# Altium schematic symbol library LaserDiode_Driver.SchLib: 93 symbols (part 2 of 3)
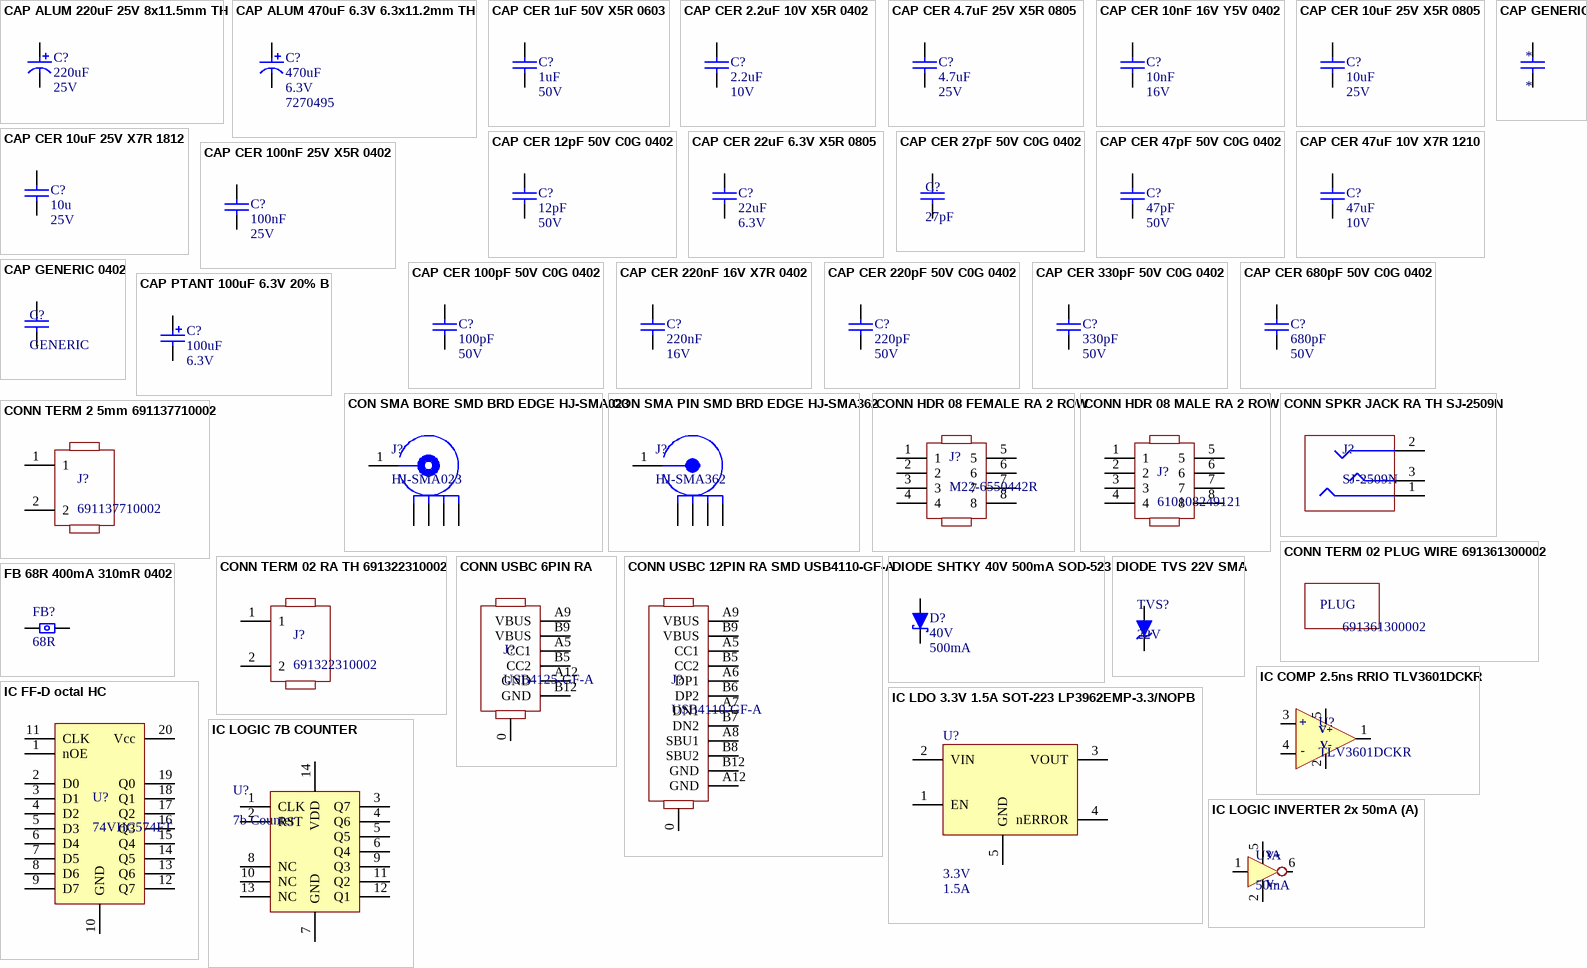
[diagram p3: symbols CAP ALUM 220uF 25V 8x11.5mm TH to IC LOGIC INVERTER 2x 50mA]

## IC LDO 3.3V 1.5A SOT-223 LP3962EMP-3.3/NOPB
designator U?, comment 3.3V  Max Output Current: 1.5A
1.5-A, high-accuracy, low-dropout voltage regulator with enable 5-SOT-223 -40 to 125; Manufacturer: TI National Semiconductor; Manufacturer Part Number: LP3962EMP-3.3/NOPB; Min Input Voltage: 2.5V; Max Input Voltage: 7V; Number of Outputs: 1; Polarity: Positive; Accuracy: 1.5%; Output Type: Fixed; Dropout Voltage: 380mV; Quiescent Current: 4mA; Supplier 1: Digi-Key; RoHS: Yes; Category: Voltage Regulators - Linear; Stock 1: 372; Pricing 1: 1=3.18000, 10=2.85800, 25=2.70240, 100=2.34190, 250=2.22180, 500=1.99362 (USD); Mount: Surface Mount; Case/Package: SOT-223; Number of Pins: 5; Contact Plating: Tin; Min Operating Temperature: -40°C; Max Operating Temperature: 125°C; Output Voltage: 3.3V; Packaging: Tape and Reel; Output Current: 1.5A; Max Supply Voltage: 7V; Min Supply Voltage: 2.5V; Package Quantity: 1000; Max Output Voltage: 3.3V; Termination: SMD/SMT; Output Voltage Accuracy: 1.5%; Current Rating: 1.5A; Radiation Hardening: No; REACH SVHC: No SVHC; Lead Free: Lead Free; RoHS Compliant: Yes; ComponentLink1URL: https://datasheet.ciiva.com/6591/lp3962-6591525.pdf?src-supplier=Digi-Key; ComponentLink1Description: https://datasheet.ciiva.com/6591/lp3962-6591525.pdf?src-supplier=Digi-Key; ComponentLink2URL: https://datasheet.ciiva.com/6591/lp3962-6591526.pdf?src-supplier=Digi-Key; ComponentLink2Description: https://datasheet.ciiva.com/6591/lp3962-6591526.pdf?src-supplier=Digi-Key; ComponentLink3URL: https://datasheet.ciiva.com/6591/lp3962-6591527.pdf?src-supplier=Digi-Key; ComponentLink3Description: https://datasheet.ciiva.com/6591/lp3962-6591527.pdf?src-supplier=Digi-Key; ComponentLink4URL: https://datasheet.ciiva.com/14278/lp3962-14278919.pdf?src-supplier=Avnet; ComponentLink4Description: https://datasheet.ciiva.com/14278/lp3962-14278919.pdf?src-supplier=Avnet; Supplier Part Number 1: LP3962EMP-3.3/NOPBCT-ND
footprint SOT223-5 TI NDC0005A (Footprint not found)
pins: 1 EN, 2 VIN, 3 VOUT, 4 nERROR, 5 GND

## IC LOGIC 7B COUNTER
designator U?, comment 7b Counter
MC14024BDG 7-stage Binary Counter; Up Counter; 3 - 18 V; 14-Pin SOIC; Manufacturer: ON Semiconductor; Direction: Up,Unidirectional; Max Supply Voltage: 18V; Min Supply Voltage: 3V; Number of Elements: 1; Propagation Delay: 2000ns; Number of Output Lines: 7; Reset: Asynchronous; Frequency: 12MHz; Output Characteristics: DIFFERENTIAL; Supplier 1: Digi-Key; Manufacturer Part Number: MC14024BDG; RoHS: Yes; Category: Counters; Stock 1: 1443; Pricing 1: 1=0.63000, 10=0.55600, 25=0.52240, 100=0.42640, 250=0.39608, 500=0.33708, 1000=0.27825 (USD); Mount: Surface Mount; Case/Package: SOIC; Number of Pins: 14; Min Operating Temperature: -55°C; Max Operating Temperature: 125°C; Packaging: Rail/Tube; Package Quantity: 55; Number of Circuits: 1; Number of Input Lines: 1; Logic Function: Counter; Number of Bits per Element: 7; Number of Bits: 7; Turn-On Delay Time: 2000ns; Series: 4000B; Technology: CMOS; Number of Functions: 1; Supply Voltage-Nom: 18V; Length: 8.75mm; Width: 4mm; Height: 1.5mm; Radiation Hardening: No; REACH SVHC: No SVHC; Lead Free: Lead Free; Halogen Free: Halogen Free; RoHS Compliant: Yes; ComponentLink1URL: https://datasheet.ciiva.com/15093/getdatasheetpartid-147916-15093453.pdf?src-supplier=Verical; ComponentLink1Description: https://datasheet.ciiva.com/15093/getdatasheetpartid-147916-15093453.pdf?src-supplier=Verical; ComponentLink2URL: https://datasheet.ciiva.com/1506/1691447-1506837.pdf?src-supplier=Element14; ComponentLink2Description: https://datasheet.ciiva.com/1506/1691447-1506837.pdf?src-supplier=Element14; ComponentLink3URL: https://datasheet.ciiva.com/1622/76285-1622497.pdf?src-supplier=Newark; ComponentLink3Description: https://datasheet.ciiva.com/1622/76285-1622497.pdf?src-supplier=Newark; ComponentLink4URL: https://datasheet.ciiva.com/16977/0900766b805fa2a2-16977232.pdf?src-supplier=Allied+Electronics; ComponentLink4Description: https://datasheet.ciiva.com/16977/0900766b805fa2a2-16977232.pdf?src-supplier=Allied+Electronics; ComponentLink5URL: https://datasheet.ciiva.com/8252/mc14024b-d-8252619.pdf?src-supplier=Avnet; ComponentLink5Description: https://datasheet.ciiva.com/8252/mc14024b-d-8252619.pdf?src-supplier=Avnet; ComponentLink6URL: https://datasheet.ciiva.com/16392/mc14024b-d-16392830.pdf?src-supplier=Future+Electronics; ComponentLink6Description: https://datasheet.ciiva.com/16392/mc14024b-d-16392830.pdf?src-supplier=Future+Electronics; ComponentLink7URL: https://datasheet.ciiva.com/26221/mc14024b-d-26221639.pdf?src-supplier=Avnet+Europe; ComponentLink7Description: https://datasheet.ciiva.com/26221/mc14024b-d-26221639.pdf?src-supplier=Avnet+Europe; Supplier Part Number 1: MC14024BDGOS-ND
footprint SOIC14 8.65x3.9 (SOIC, 14-Leads, Body 8.65x3.90mm, Pitch 1.27mm, IPC Medium Density)
pins: 1 CLK, 2 RST, 3 Q7, 4 Q6, 5 Q5, 6 Q4, 7 GND, 8 NC, 9 Q3, 10 NC, 11 Q2, 12 Q1, 13 NC, 14 VDD

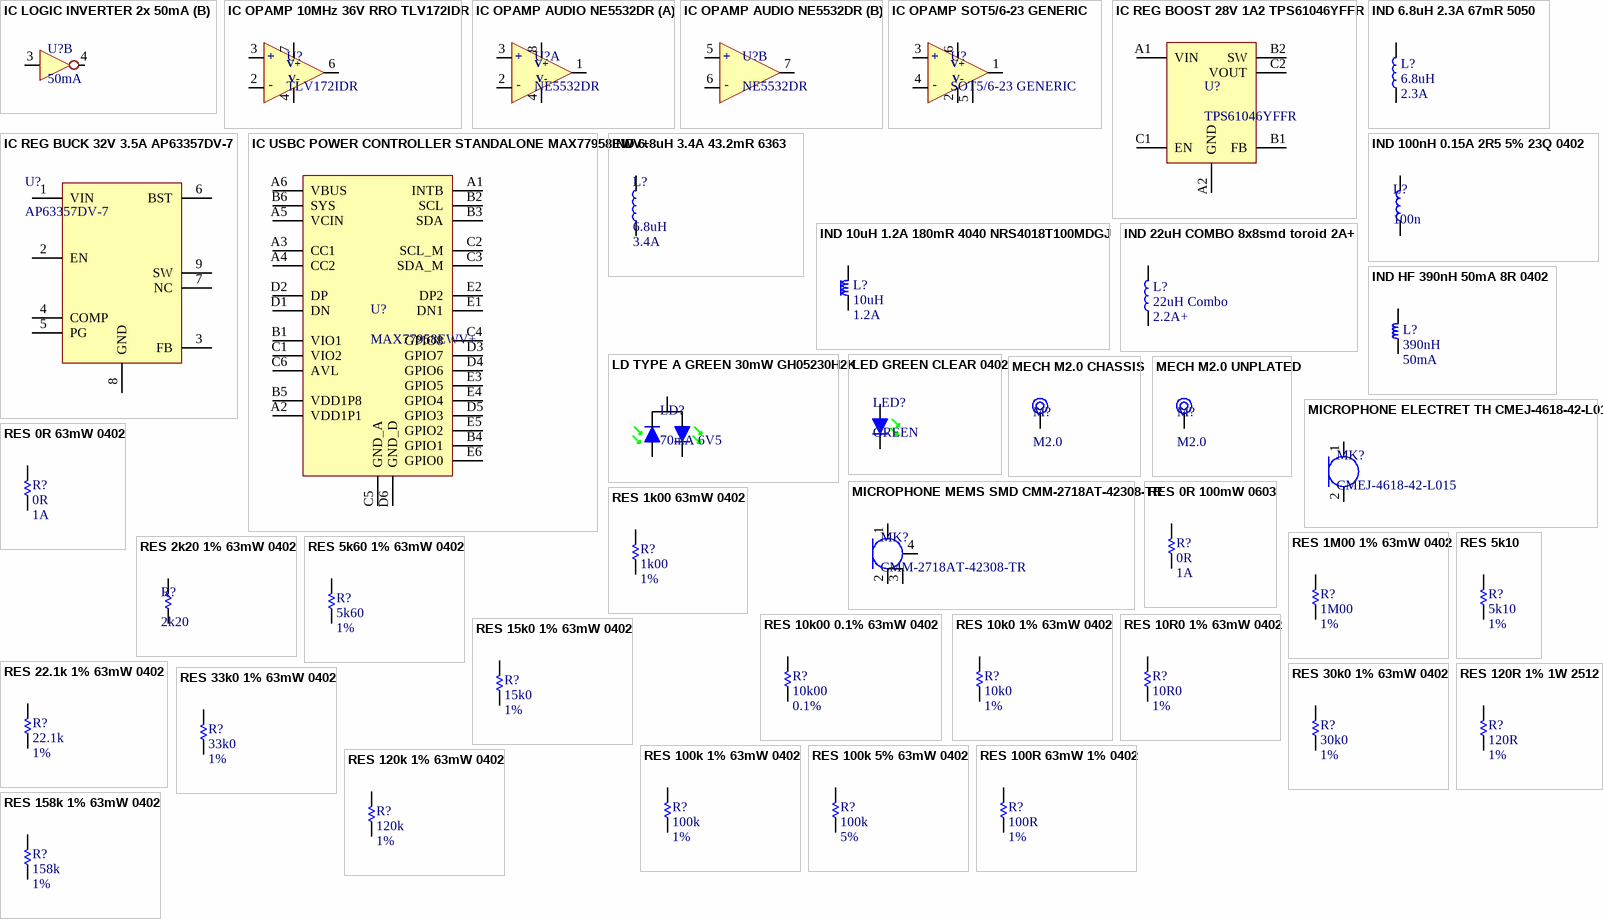
[diagram p1: symbols IC LOGIC INVERTER 2x 50mA to RES 158k 1% 63mW 0402]

## IC LOGIC INVERTER 2x 50mA
designator U?, comment 50mA
Buffer 2-CH Non-Inverting Push-Pull CMOS 6-Pin SOT-23 T/R; Manufacturer: Texas Instruments; Manufacturer Part Number: SN74LVC2GU04DBVR; Logic Function: Buffer,Inverting; Min Supply Voltage: 1.65V; Max Supply Voltage: 5.5V; Number of Channels: 2; Propagation Delay: 3.2ns; Number of Bits per Element: 1; High Level Output Current: -32mA; Low Level Output Current: 32mA; Turn-On Delay Time: 8.6ns; Quiescent Current: 10uA; Schmitt Trigger Input: No; Nominal Supply Current: 250mA; Supplier 1: Arrow Electronics; RoHS: Yes; Category: Buffers, Drivers and Transceivers; Stock 1: 261; Pricing 1: 3000=0.09770 (USD); Mount: Surface Mount; Case/Package: SOT-23; Number of Pins: 6; Contact Plating: Tin,Matte; Min Operating Temperature: -40°C; Max Operating Temperature: 125°C; Polarity: Non-Inverting; Packaging: Tape and Reel; Number of Inputs: 2; Number of Outputs: 2; Package Quantity: 3000; Number of Elements: 2; Number of Input Lines: 2; Number of Output Lines: 2; Number of Gates: 2; Number of Bits: 2; Number of Circuits: 2; Output Current: 32mA; Max Output Current: 32mA; Termination: SMD/SMT; Length: 2.9mm; Width: 1.6mm; Height: 1.15mm; Radiation Hardening: No; Lead Free: Lead Free; RoHS Compliant: Yes; REACH SVHC: No SVHC; ComponentLink1URL: https://datasheet.ciiva.com/27051/1046431-27051311.pdf?src-supplier=Jameco; ComponentLink1Description: https://datasheet.ciiva.com/27051/1046431-27051311.pdf?src-supplier=Jameco; ComponentLink2URL: https://datasheet.ciiva.com/7744/1771621-7744033.pdf?src-supplier=Element14; ComponentLink2Description: https://datasheet.ciiva.com/7744/1771621-7744033.pdf?src-supplier=Element14; ComponentLink3URL: https://datasheet.ciiva.com/15094/getdatasheetpartid-133639-15094759.pdf?src-supplier=Verical; ComponentLink3Description: https://datasheet.ciiva.com/15094/getdatasheetpartid-133639-15094759.pdf?src-supplier=Verical; ComponentLink4URL: https://datasheet.ciiva.com/14301/sn74lvc2g34-14301216.pdf?src-supplier=Avnet; ComponentLink4Description: https://datasheet.ciiva.com/14301/sn74lvc2g34-14301216.pdf?src-supplier=Avnet; ComponentLink5URL: https://datasheet.ciiva.com/46439/1785989-46439658.pdf?src-supplier=Element14; ComponentLink5Description: https://datasheet.ciiva.com/46439/1785989-46439658.pdf?src-supplier=Element14; ComponentLink6URL: https://datasheet.ciiva.com/1834/sn74lvc2g34-1834122.pdf?src-supplier=Digi-Key; ComponentLink6Description: https://datasheet.ciiva.com/1834/sn74lvc2g34-1834122.pdf?src-supplier=Digi-Key; ComponentLink7URL: https://datasheet.ciiva.com/1834/sn74lvc2g34-1834121.pdf?src-supplier=Digi-Key; ComponentLink7Description: https://datasheet.ciiva.com/1834/sn74lvc2g34-1834121.pdf?src-supplier=Digi-Key; ComponentLink8URL: https://datasheet.ciiva.com/1834/sn74lvc2g34-1834123.pdf?src-supplier=Digi-Key; ComponentLink8Description: https://datasheet.ciiva.com/1834/sn74lvc2g34-1834123.pdf?src-supplier=Digi-Key; ComponentLink9URL: https://datasheet.ciiva.com/14301/sn74lvc2g34-14301215.pdf?src-supplier=Avnet; ComponentLink9Description: https://datasheet.ciiva.com/14301/sn74lvc2g34-14301215.pdf?src-supplier=Avnet; ComponentLink10URL: https://datasheet.ciiva.com/16532/sn74lvc2g34-16532026.pdf?src-supplier=Avnet+Asia; ComponentLink10Description: https://datasheet.ciiva.com/16532/sn74lvc2g34-16532026.pdf?src-supplier=Avnet+Asia; ComponentLink11URL: https://datasheet.ciiva.com/48703/001074027-da-01-en-ic-buffer-d-sn74lvc2g34dbvr-sot-23-6-tid-48703269.pdf?src-supplier=Conrad; ComponentLink11Description: https://datasheet.ciiva.com/48703/001074027-da-01-en-ic-buffer-d-sn74lvc2g34dbvr-sot-23-6-tid-48703269.pdf?src-supplier=Conrad; Supplier Part Number 1: SN74LVC2G34DBVR
footprint SOT-23 6 2.9x2.8mm TI DBV0006A (SOT23, 6-Leads, Body 2.90x2.80mm, Pitch 0.95mm, IPC Medium Density)
part A pins: 1, 2 GND, 5 PWR, 6
part B pins: 3, 4
part A text: V+; V-

## IC OPAMP 10MHz 36V RRO TLV172IDR
designator U?, comment TLV172IDR
1-Channel, 10-MHz, 36V, high slew-rate, low-noise, RRO, op amp for cost-sensitive systems 8-SOIC -40 to 125; Manufacturer: Texas Instruments; Number of Channels: 1; Slew Rate: 10V/µs; Gain Bandwidth Product: 10MHz; Input Bias Current: 10pA; Input Offset Voltage (Vos): 500uV; Operating Supply Current: 1.6mA; Output Current per Channel: 75mA; Supplier 1: Digi-Key; Manufacturer Part Number: TLV172IDR; RoHS: Yes; Category: Amplifiers - Op Amps, Buffer, Instrumentation; Stock 1: 2921; Pricing 1: 1=1.23000, 10=1.09800, 25=1.04160, 100=0.85570, 250=0.79992, 500=0.70692, 1000=0.61425 (USD); Mount: Surface Mount; Case/Package: SOIC; Number of Pins: 8; Min Operating Temperature: -40°C; Max Operating Temperature: 125°C; Packaging: Cut Tape; Number of Circuits: 1; RoHS Compliant: Yes; ComponentLink1URL: http://www.ti.com/lit/ds/symlink/tlv172.pdf?src-supplier=Digi-Key; ComponentLink1Description: http://www.ti.com/lit/ds/symlink/tlv172.pdf?src-supplier=Digi-Key; Supplier Part Number 1: 296-47279-1-ND
footprint SO8 6.2x5mm TI D0008A
pins: 2 -, 3 +, 4 V-, 6 1, 7 V+

## IC OPAMP AUDIO NE5532DR
designator U?, comment NE5532DR
2-channel, 10-MHz, 26-V output swing, low-noise audio op amp 8-SOIC 0 to 70; Manufacturer: Texas Instruments; Voltage Gain: 100dB; Min Dual Supply Voltage: 5V; Max Dual Supply Voltage: 15V; Output Current: 38mA; Nominal Supply Current: 16mA; Common Mode Rejection Ratio: 70dB; Number of Channels: 2; Slew Rate: 9V/µs; Gain Bandwidth Product: 10MHz; Input Bias Current: 800nA; Input Offset Voltage (Vos): 4mV; Operating Supply Current: 8mA; Dual Supply Voltage: 9V; Supplier 1: Digi-Key; Manufacturer Part Number: NE5532DR; RoHS: Yes; Category: Amplifiers - Op Amps, Buffer, Instrumentation; Stock 1: 29111; Pricing 1: 1=0.60000, 10=0.51300, 25=0.47840, 100=0.38290, 250=0.35552, 500=0.30082, 1000=0.23246 (USD); Case/Package: D; Number of Pins: 8; Contact Plating: Gold; Min Operating Temperature: 0°C; Max Operating Temperature: 70°C; Packaging: Tape and Reel; Package Quantity: 1; Number of Circuits: 2; Output Current per Channel: 38mA; Nominal Gain Bandwidth Product: 10MHz; Unity Gain Bandwidth Product: 10MHz; Number of Elements: 2; Bandwidth: 10MHz; Max I/O Voltage: 4mV; Max Supply Voltage: 15V; Number of Amplifiers: 2; Length: 4.9mm; Width: 3.91mm; Height: 1.58mm; Radiation Hardening: No; Lead Free: Lead Free; RoHS Compliant: Yes; REACH SVHC: No SVHC; ComponentLink1URL: https://datasheet.ciiva.com/1796/ne5532-1796190.pdf?src-supplier=Digi-Key; ComponentLink1Description: https://datasheet.ciiva.com/1796/ne5532-1796190.pdf?src-supplier=Digi-Key; ComponentLink2URL: https://datasheet.ciiva.com/1796/ne5532-1796189.pdf?src-supplier=Digi-Key; ComponentLink2Description: https://datasheet.ciiva.com/1796/ne5532-1796189.pdf?src-supplier=Digi-Key; ComponentLink3URL: https://datasheet.ciiva.com/1796/ne5532-1796191.pdf?src-supplier=Digi-Key; ComponentLink3Description: https://datasheet.ciiva.com/1796/ne5532-1796191.pdf?src-supplier=Digi-Key; Supplier Part Number 1: 296-13622-1-ND
footprint SO8 6.2x5mm TI D0008A
part A pins: 1, 2 -, 3 +, 4 V-, 8 V+
part B pins: 5 +, 6 -, 7

## IC OPAMP SOT5/6-23 GENERIC
designator U?, comment SOT5/6-23 GENERIC
Number of Channels: 1; RoHS: Yes; Category: Amplifiers - Op Amps, Buffer, Instrumentation; Mount: Surface Mount; Case/Package: SOT; Number of Pins: 6; Number of Circuits: 1; RoHS Compliant: Yes
footprint SOT23-5/6_Modified (SOT23, 6-Leads, Body 2.90x2.80mm, Pitch 0.95mm, IPC Low Density)
pins: 1, 2 V-, 3 +, 4 -, 5 1, 6 V+

## IC REG BOOST 28V 1A2 TPS61046YFFR
designator U?, comment TPS61046YFFR
28-V Output Voltage Boost Converter in WCSP Package 6-DSBGA -40 to 125; Manufacturer: Texas Instruments; Quiescent Current: 110uA; Supplier 1: Digi-Key; Manufacturer Part Number: TPS61046YFFR; RoHS: Yes; Category: Voltage Regulators - Switching; Stock 1: 82158; Pricing 1: 1=1.29000, 10=1.15700, 25=1.09800, 100=0.90210, 250=0.84324, 500=0.74518, 1000=0.58830 (USD); Min Operating Temperature: -40°C; Max Operating Temperature: 85°C; Topology: Boost; Lead Free: Lead Free; RoHS Compliant: Yes; ComponentLink1URL: http://www.ti.com/lit/ds/symlink/tps61046.pdf?src-supplier=Digi-Key; ComponentLink1Description: http://www.ti.com/lit/ds/symlink/tps61046.pdf?src-supplier=Digi-Key; ComponentLink2URL: http://www.ti.com/general/docs/suppproductinfo.tsp?distId=10&amp;gotoUrl=http%3A%2F%2Fwww.ti.com%2Flit%2Fgpn%2Ftps61046&src-supplier=Digi-Key; ComponentLink2Description: http://www.ti.com/general/docs/suppproductinfo.tsp?distId=10&amp;gotoUrl=http%3A%2F%2Fwww.ti.com%2Flit%2Fgpn%2Ftps61046&src-supplier=Digi-Key; ComponentLink3URL: http://www.ti.com/general/docs/lit/getliterature.tsp?genericPartNumber=TPS61046&&fileType=pdf&src-supplier=Avnet; ComponentLink3Description: http://www.ti.com/general/docs/lit/getliterature.tsp?genericPartNumber=TPS61046&&fileType=pdf&src-supplier=Avnet; Supplier Part Number 1: 296-44337-1-ND
footprint BGA 2x3 0.8x1.2mm TI-YFF0006 (BGA, 6-Leads, Body 0.79x1.19mmx0.63mm, Pitch 0.40mm)
pins: A1 VIN, A2 GND, B1 FB, B2 SW, C1 EN, C2 VOUT

## IC REG BUCK 32V 3.5A AP63357DV-7
designator U?, comment AP63357DV-7
AP63357 Series 32 V 3.5 A 450 kHz Synchronous Buck Converter - DFN3020-13; Manufacturer: Diodes; Supplier 1: Digi-Key; Manufacturer Part Number: AP63357DV-7; RoHS: Yes; Category: Voltage Regulators - Switching; Stock 1: 1191; Pricing 1: 1=0.98000, 10=0.88000, 25=0.83560, 100=0.68630, 250=0.64152, 500=0.56694, 1000=0.44758 (USD); Supplier Part Number 1: 31-AP63357DV-7CT-ND
footprint VDFN3020-13 AP63357DV-7 (SON, 12-Leads, Body 3.00x2.00mm, Pitch 0.45mm, IPC Medium Density)
pins: 1 VIN, 2 EN, 3 FB, 4 COMP, 5 PG, 6 BST, 7 NC, 8 GND, 9 SW

## IC USBC POWER CONTROLLER STANDALONE MAX77958EWV+
designator U?, comment MAX77958EWV+
Industry's Simplest Standalone USB Type-C and USB Power Delivery Controller; Manufacturer: Maxim; Supplier 1: Mouser; Manufacturer Part Number: MAX77958EWV+; RoHS: Yes; Stock 1: 1588; Pricing 1: 1=2.71000, 10=2.43000, 20=2.30000, 50=2.30000, 100=1.95000, 200=1.84000, 500=1.60000, 1000=1.37000, 2000=1.33000, 10000=1.33000 (USD); Supplier Part Number 1: 700-MAX77958EWV+
footprint BGA30C50P6X5 MAX77958EWV+ (BGA, 30-Leads, Body 3.07x2.62mmx0.69mm, Pitch 0.50mm)
pins: A1 INTB, A2 VDD1P1, A3 CC1, A4 CC2, A5 VCIN, A6 VBUS, B1 VIO1, B2 SCL, B3 SDA, B4 GPIO1, B5 VDD1P8, B6 SYS, C1 VIO2, C2 SCL_M, C3 SDA_M, C4 GPIO8, C5 GND_A, C6 AVL, D1 DN, D2 DP, D3 GPIO7, D4 GPIO6, D5 GPIO3, D6 GND_D, E1 DN1, E2 DP2, E3 GPIO5, E4 GPIO4, E5 GPIO2, E6 GPIO0

## IND 6.8uH 2.3A 67mR 5050
designator L?, comment 6.8uH  Current Rating: 2.3A
Inductor Power Shielded Wirewound 6.8uH 20% 100KHz Ferrite 2.3A 0.0676Ohm DCR T/R; Manufacturer: Taiyo Yuden; Manufacturer Part Number: NRS5030T6R8MMGJ; Saturation Current: 2.5A; Self Resonant Frequency: 22MHz; DC Resistance (DCR): 52mR; Supplier 1: Digi-Key; RoHS: Yes; Category: Fixed Inductors; Stock 1: 6678; Pricing 1: 1=0.37000, 10=0.32600, 25=0.28480, 50=0.24420, 100=0.22380, 250=0.20352 (USD); Mount: Surface Mount; Case/Package: 5030; Core Material: Ferrite; Min Operating Temperature: -25°C; Max Operating Temperature: 120°C; Packaging: Tape and Reel; Tolerance: 20%; Shielding: Shielded; Inductance: 6.8uH; Test Frequency: 100kHz; Package Quantity: 500; Max DC Current: 2.5A; Termination: SMD/SMT; Length: 0.193inch; Width: 0.193inch; Height: 3.1mm; Height - Seated (Max): 0.122inch; Depth: 4.9mm; Radiation Hardening: No; RoHS Compliant: Yes; Halogen Free: Halogen Free; ComponentLink1URL: https://datasheet.ciiva.com/18686/wound04-e-18686409.pdf?src-supplier=Digi-Key; ComponentLink1Description: https://datasheet.ciiva.com/18686/wound04-e-18686409.pdf?src-supplier=Digi-Key; ComponentLink2URL: https://datasheet.ciiva.com/18686/wound04-e-18686410.pdf?src-supplier=Digi-Key; ComponentLink2Description: https://datasheet.ciiva.com/18686/wound04-e-18686410.pdf?src-supplier=Digi-Key; ComponentLink3URL: https://datasheet.ciiva.com/18686/wound04-e-18686411.pdf?src-supplier=Digi-Key; ComponentLink3Description: https://datasheet.ciiva.com/18686/wound04-e-18686411.pdf?src-supplier=Digi-Key; Supplier Part Number 1: 587-3462-1-ND
footprint IND 4.9x4.9x3.1mm (Footprint not found)
pins: 1, 2

## IND 6.8uH 3.4A 43.2mR 6363
designator L?, comment 6.8uH  Current Rating: 3.4A
Inductor Power Shielded Wirewound 6.8uH 20% 100KHz Ferrite 3.4A 0.0432Ohm DCR 2424 T/R; Manufacturer: Murata; Manufacturer Part Number: 1255AY-6R8M=P3; Saturation Current: 3.6A; DC Resistance (DCR): 43.2mR; Supplier 1: Digi-Key; RoHS: Yes; Category: Fixed Inductors; Stock 1: 10934; Pricing 1: 1=0.55000, 10=0.48500, 25=0.45040, 50=0.38120, 100=0.34650, 250=0.32572, 500=0.29106 (USD); Mount: Surface Mount; Case/Package: Nonstandard; Core Material: Ferrite; Min Operating Temperature: -40°C; Max Operating Temperature: 85°C; Packaging: Tape and Reel; Resistor Type: Wirewound; Inductance: 6.8uH; Shielding: Shielded; Test Frequency: 100kHz; Tolerance: 20%; Length: 0.248inch; Width: 0.248inch; Height - Seated (Max): 0.177inch; RoHS Compliant: Yes; ComponentLink1URL: http://www.toko.co.jp/products/pdf/inductors/dg6045c.pdf?src-supplier=Digi-Key; ComponentLink1Description: http://www.toko.co.jp/products/pdf/inductors/dg6045c.pdf?src-supplier=Digi-Key; Supplier Part Number 1: 490-14063-1-ND
footprint IND 6.3x6.3x4.5mm
pins: 1, 2

## IND 10uH 1.2A 180mR 4040 NRS4018T100MDGJ
designator L?, comment 10uH  Current Rating: 1.2A
Inductor Power Shielded Wirewound 10uH 20% 100KHz Ferrite 1.2A 0.18Ohm DCR 1515 T/R; Manufacturer: Taiyo Yuden; Manufacturer Part Number: NRS4018T100MDGJ; Self Resonant Frequency: 25MHz; Saturation Current: 1.3A; DC Resistance (DCR): 180mR; Supplier 1: Newark; RoHS: Yes; Category: Fixed Inductors; Stock 1: 105000; Pricing 1: 3500=0.14600, 7000=0.14500 (CAD); Mount: Surface Mount; Case/Package: 4018; Number of Pins: 2; Core Material: Ferrite; Min Operating Temperature: -25°C; Max Operating Temperature: 125°C; Package Quantity: 3500; Packaging: Tape and Reel; Tolerance: 20%; Inductance: 10uH; Shielding: Shielded; Max DC Current: 1.2A; Termination: SMD/SMT; Resistor Type: Wirewound; Test Frequency: 100kHz; Inductance Tolerance: 20%; RMS Current (Irms): 1.2A; Series: NRS; Length: 4mm; Width: 0.157inch; Height: 1.8mm; Height - Seated (Max): 0.071inch; Depth: 4.2mm; Lead Pitch: 2.8mm; Radiation Hardening: No; Halogen Free: Halogen Free; RoHS Compliant: Yes; Lead Free: Lead Free; Reach SVHC Compliant: Yes; ComponentLink1URL: https://datasheet.ciiva.com/7197/nrs4018t100mdgj-ss-7197570.pdf?src-supplier=Newark; ComponentLink1Description: https://datasheet.ciiva.com/7197/nrs4018t100mdgj-ss-7197570.pdf?src-supplier=Newark; ComponentLink2URL: https://datasheet.ciiva.com/25607/0900766b810b3cd2-25607943.pdf?src-supplier=RSComponents; ComponentLink2Description: https://datasheet.ciiva.com/25607/0900766b810b3cd2-25607943.pdf?src-supplier=RSComponents; ComponentLink3URL: https://datasheet.ciiva.com/8504/nrs4018t100mdgj-ss-8504500.pdf?src-supplier=Avnet; ComponentLink3Description: https://datasheet.ciiva.com/8504/nrs4018t100mdgj-ss-8504500.pdf?src-supplier=Avnet; Supplier Part Number 1: 26AC2706
footprint INDP4040X27N (Precision Wire Wound Inductor, 2-Leads, Body 4.00x4.00mm, IPC Medium Density)
pins: 1, 2

## IND 22uH COMBO 8x8smd toroid 2A+
designator L?, comment 22uH Combo  Current Rating: 2.2A+
Inductor Power Shielded Wirewound 22uH 20% 100KHz Ferrite 2.2A 0.0858Ohm DCR 3131 T/R; Manufacturer: Taiyo Yuden; Manufacturer Part Number: NR8040T220M; Self Resonant Frequency: 13MHz; DC Resistance (DCR): 85.8mR; Supplier 1: Digi-Key; RoHS: Yes; Category: Fixed Inductors; Stock 1: 488; Pricing 1: 1=0.59000, 10=0.52000, 25=0.48280, 50=0.40840, 100=0.37120, 250=0.34896, 500=0.31184 (USD); Mount: Surface Mount; Case/Package: 3131; Number of Pins: 2; Core Material: Ferrite; Min Operating Temperature: -25°C; Max Operating Temperature: 120°C; Packaging: Tape and Reel; Inductance: 22uH; Tolerance: 20%; Package Quantity: 1000; Saturation Current: 2.2A; Shielding: Shielded; Max DC Current: 2.2A; Termination: SMD/SMT; Resistor Type: Wirewound; Test Frequency: 100kHz; Series: NR; Inductance Tolerance: 20%; RMS Current (Irms): 2.2A; Length: 0.315inch; Width: 8mm; Height: 4mm; Height - Seated (Max): 0.157inch; Halogen Free: Halogen Free; RoHS Compliant: Yes; REACH SVHC: Unknown; ComponentLink1URL: https://datasheet.ciiva.com/7291/1706789-7291882.pdf?src-supplier=Newark; ComponentLink1Description: https://datasheet.ciiva.com/7291/1706789-7291882.pdf?src-supplier=Newark; ComponentLink2URL: https://datasheet.ciiva.com/8002/nr8040t220m-ss-8002169.pdf?src-supplier=Element14; ComponentLink2Description: https://datasheet.ciiva.com/8002/nr8040t220m-ss-8002169.pdf?src-supplier=Element14; ComponentLink3URL: https://datasheet.ciiva.com/8505/nr8040t220m-ss-8505667.pdf?src-supplier=Avnet; ComponentLink3Description: https://datasheet.ciiva.com/8505/nr8040t220m-ss-8505667.pdf?src-supplier=Avnet; ComponentLink4URL: https://datasheet.ciiva.com/15988/268nr8040t220m-15988126.pdf?src-supplier=Onlinecomponents.com; ComponentLink4Description: https://datasheet.ciiva.com/15988/268nr8040t220m-15988126.pdf?src-supplier=Onlinecomponents.com; ComponentLink5URL: https://datasheet.ciiva.com/1045/wound04-e-1045229.pdf?src-supplier=Digi-Key; ComponentLink5Description: https://datasheet.ciiva.com/1045/wound04-e-1045229.pdf?src-supplier=Digi-Key; ComponentLink6URL: https://datasheet.ciiva.com/1045/wound04-e-1045228.pdf?src-supplier=Digi-Key; ComponentLink6Description: https://datasheet.ciiva.com/1045/wound04-e-1045228.pdf?src-supplier=Digi-Key; ComponentLink7URL: https://datasheet.ciiva.com/1045/wound04-e-1045230.pdf?src-supplier=Digi-Key; ComponentLink7Description: https://datasheet.ciiva.com/1045/wound04-e-1045230.pdf?src-supplier=Digi-Key; Supplier Part Number 1: 587-2002-1-ND
footprint IND COMBO 8x8mm SMD 24.5x16.6mm TH
pins: 1, 2

## IND 100nH 0.15A 2R5 5% 23Q 0402
designator L?, comment 100n
Inductor High Frequency Chip Unshielded Multi-Layer 0.1uH 5% 100MHz 23Q-Factor Ceramic 0.15A 2.5Ohm DCR 0402 T/R; Manufacturer: TDK; Manufacturer Part Number: MHQ1005PR10JT000; Core Material: Ceramic,Non-Magnetic; Inductance: 100nH; Current Rating: 150mA; DC Resistance (DCR): 2.5R; Self Resonant Frequency: 900MHz; Q Factor: 23; Supplier 1: Newark; RoHS: Yes; Category: Fixed Inductors; Stock 1: 2806; Pricing 1: 1=0.20900, 10=0.14400, 25=0.13500, 50=0.12600, 100=0.11700 (USD); Mount: Surface Mount; Case/Package: 0402; Case Code (Metric): 1006; Case Code (Imperial): 0402; Weight: 2.3E-05oz; Min Operating Temperature: -55°C; Max Operating Temperature: 125°C; Packaging: Tape and Reel; Shielding: Unshielded; Test Frequency: 100MHz; Tolerance: 5%; Termination: SMD/SMT; Max DC Current: 150mA; Package Quantity: 10000; Length: 0.039inch; Width: 0.6mm; Height: 0.5mm; Height - Seated (Max): 0.024inch; RoHS Compliant: Yes; ComponentLink1URL: http://www.mouser.com/ds/2/400/nductor_commercial_high-frequency_mhq1005p_en-918308.pdf?src-supplier=Mouser; ComponentLink1Description: http://www.mouser.com/ds/2/400/nductor_commercial_high-frequency_mhq1005p_en-918308.pdf?src-supplier=Mouser; ComponentLink2URL: https://product.tdk.com/info/en/catalog/datasheets/inductor_commercial_high-frequency_mhq1005p_en.pdf?src-supplier=Digi-Key; ComponentLink2Description: https://product.tdk.com/info/en/catalog/datasheets/inductor_commercial_high-frequency_mhq1005p_en.pdf?src-supplier=Digi-Key; Supplier Part Number 1: 78AH1848
footprint ind0402 (Chip Inductor, 2-Leads, Body 1.00x0.60mm, IPC Medium Density)
pins: 1, 2

## IND HF 390nH 50mA 8R 0402
designator L?, comment 390nH  Current Rating: 50mA
Inductor High Frequency Chip Unshielded Multi-Layer 390nH 5% 50MHz 6Q-Factor Ceramic 50mA 8Ohm DCR 0402 T/R; Manufacturer: TDK; Manufacturer Part Number: MLG1005SR39JT000; Core Material: Non-Magnetic; DC Resistance (DCR): 8R; Self Resonant Frequency: 300MHz; Supplier 1: Newark; RoHS: Yes; Category: Fixed Inductors; Stock 1: 9470; Pricing 1: 1=0.13000, 10=0.08700, 25=0.08200, 50=0.07600, 100=0.07100 (USD); Mount: Surface Mount; Case/Package: 0402; Case Code (Metric): 1005; Case Code (Imperial): 0402; Min Operating Temperature: -55°C; Max Operating Temperature: 125°C; Package Quantity: 10000; Packaging: Tape and Reel; Tolerance: 5%; Shielding: Unshielded; Inductance: 390nH; Test Frequency: 50MHz; Length: 0.039inch; Width: 0.02inch; Height - Seated (Max): 0.022inch; RoHS Compliant: Yes; ComponentLink1URL: https://datasheet.ciiva.com/29690/inductor-commercial-high-frequency-mlg-en-29690424.pdf?src-supplier=Digi-Key; ComponentLink1Description: https://datasheet.ciiva.com/29690/inductor-commercial-high-frequency-mlg-en-29690424.pdf?src-supplier=Digi-Key; ComponentLink2URL: https://datasheet.ciiva.com/29690/inductor-commercial-high-frequency-mlg-en-29690423.pdf?src-supplier=Digi-Key; ComponentLink2Description: https://datasheet.ciiva.com/29690/inductor-commercial-high-frequency-mlg-en-29690423.pdf?src-supplier=Digi-Key; ComponentLink3URL: https://datasheet.ciiva.com/29690/inductor-commercial-high-frequency-mlg-en-29690425.pdf?src-supplier=Digi-Key; ComponentLink3Description: https://datasheet.ciiva.com/29690/inductor-commercial-high-frequency-mlg-en-29690425.pdf?src-supplier=Digi-Key; Supplier Part Number 1: 69AH1243
footprint L0402
pins: 1, 2

## LD TYPE A GREEN 30mW GH05230H2K
designator LD?, comment 70mA 6V5
Manufacturer: Sharp; Manufacturer Part Number: GH05230H2K; Supplier 1: Mouser; Stock 1: 1976; Pricing 1: 1=6.31000, 10=4.45000, 50=4.45000, 100=3.64000, 1000=2.99000, 10000=2.89000 (USD); Supplier Part Number 1: 852-GH05230H2K
footprint LD TO-56
pins: 1 LD, 2 STEM, 3 PD

## LED GREEN CLEAR 0402
designator LED?, comment GREEN
LED GREEN CLEAR 0402 SMD; Manufacturer: Kingbright; Manufacturer Part Number: APHHS1005CGCK; Forward Current: 20mA; Forward Voltage: 2.1V; Luminous Intensity: 50mcd; Viewing Angle: 120°; Lens Style: Clear,Flat; Dominant Wavelength: 570nm; Number of LEDs: 1; Supplier 1: Future Electronics; RoHS: Yes; Category: LEDs; Stock 1: 6000; Pricing 1: 2000=0.08900, 6000=0.07440, 10000=0.07360, 30000=0.07200, 50000=0.07120 (USD); Mount: Surface Mount; Case/Package: 0402; Number of Pins: 2; Color: Green; Case Code (Metric): 1005; Case Code (Imperial): 0402; Lens Color: Clear; Min Operating Temperature: -40°C; Max Operating Temperature: 85°C; Packaging: Tape and Reel; Package Quantity: 2000; Test Current: 20mA; Series: APHHS; Illumination Color: Green; Wavelength: 570nm; Length: 1mm; Width: 0.5mm; Height: 0.6mm; Lead Free: Lead Free; RoHS Compliant: Yes; ComponentLink1URL: https://datasheet.ciiva.com/4688/aphhs1005cgck-38896-4688761.pdf?src-supplier=Mouser; ComponentLink1Description: https://datasheet.ciiva.com/4688/aphhs1005cgck-38896-4688761.pdf?src-supplier=Mouser; ComponentLink2URL: https://datasheet.ciiva.com/2113/aphhs1005cgck-2113972.pdf?src-supplier=Digi-Key; ComponentLink2Description: https://datasheet.ciiva.com/2113/aphhs1005cgck-2113972.pdf?src-supplier=Digi-Key; ComponentLink3URL: https://datasheet.ciiva.com/2113/aphhs1005cgck-2113973.pdf?src-supplier=Digi-Key; ComponentLink3Description: https://datasheet.ciiva.com/2113/aphhs1005cgck-2113973.pdf?src-supplier=Digi-Key; ComponentLink4URL: https://datasheet.ciiva.com/2113/aphhs1005cgck-2113974.pdf?src-supplier=Digi-Key; ComponentLink4Description: https://datasheet.ciiva.com/2113/aphhs1005cgck-2113974.pdf?src-supplier=Digi-Key; Supplier Part Number 1: 5437918
footprint led0402 green
pins: 1 K, 2 A

## MECH M2.0 CHASSIS
designator M?, comment M2.0  (no BOM)
footprint MECH M2.0 CHASSIS
pins: 1

## MECH M2.0 UNPLATED
designator M?, comment M2.0  (no BOM)
footprint MECH M2.0 UNPLATED
pins: 1

## MICROPHONE ELECTRET TH CMEJ-4618-42-L015
designator MK?, comment CMEJ-4618-42-L015
4.6 mm, Omnidirectional, Wire Leads, 2.0 Vdc, Elecret Condenser Microphone; Manufacturer: CUI Devices; Supplier 1: Arrow Electronics; Manufacturer Part Number: CMEJ-4618-42-L015; RoHS: No; Category: Microphones; Stock 1: 1966; Pricing 1: 1=0.20900 (USD); Supplier Part Number 1: CMEJ-4618-42-L015
footprint MICROPHONE ELECTRET 32AWG TH
pins: 1, 2

## MICROPHONE MEMS SMD CMM-2718AT-42308-TR
designator MK?, comment CMM-2718AT-42308-TR
2.75 x 1.85 mm, Analog, Top Port, Surface Mount, 2.0 Vdc, -42 ±3 dB, MEMS Microphone; Manufacturer: CUI Devices; Supplier 1: Digi-Key; Manufacturer Part Number: CMM-2718AT-42308-TR; RoHS: Yes; Category: Microphones; Stock 1: 1358; Pricing 1: 1=0.88000, 10=0.73800, 25=0.68360, 50=0.64380, 100=0.60560, 500=0.52196 (USD); RoHS Compliant: Yes; Supplier Part Number 1: 102-5092-1-ND
footprint MICROPHONE MEMS SMD CMM-2718AT-42308-TR
pins: 1, 2, 3, 4

## RES 0R 63mW 0402
designator R?, comment 0R  Current Rating: 1A
GLOVE, POLYAMIDE, L/FREE, PU, SIZE 6 - More Details; Manufacturer: Stackpole Electronics; Manufacturer Part Number: RMCF0402ZT0R00; Power Rating: 63mW; Working Voltage: 50V; Supplier 1: Digi-Key; RoHS: Yes; Category: Chip SMD Resistors; Stock 1: 5203223; Pricing 1: 1=0.10000, 10=0.01000, 25=0.00720, 50=0.00560, 100=0.00410, 250=0.00316, 500=0.00252, 1000=0.00186, 5000=0.00133 (USD); Mount: Surface Mount; Case/Package: 0402; Case Code (Metric): 1005; Case Code (Imperial): 0402; Contact Plating: Tin,Matte; Min Operating Temperature: -55°C; Max Operating Temperature: 155°C; Resistance: 0R; Packaging: Tape and Reel; Resistor Type: Thick Film; Number of Terminations: 2; Max Power Dissipation: 63mW; Features: Automotive AEC-Q200; Series: RMCF; Technology: THICK FILM; Construction: Rectangular; Length: 0.039inch; Width: 0.02inch; Height: 0.016inch; Depth: 0.5mm; Radiation Hardening: No; Military Standard: Not; Lead Free: Lead Free; RoHS Compliant: Yes; ComponentLink1URL: https://datasheet.ciiva.com/26835/getdatasheetpartid-409751-26835612.pdf?src-supplier=Verical; ComponentLink1Description: https://datasheet.ciiva.com/26835/getdatasheetpartid-409751-26835612.pdf?src-supplier=Verical; Supplier Part Number 1: RMCF0402ZT0R00CT-ND
footprint R0402
pins: 1, 2

## RES 0R 100mW 0603
designator R?, comment 0R  Current Rating: 1A
Res Thkflm 0603 0 Ohm Jumper 1/10W 100Ppm/ C Smd Rohs Compliant: Yes; Manufacturer: Stackpole Electronics; Manufacturer Part Number: RMCF0603ZT0R00; Power Rating: 100mW; Working Voltage: 75V; Supplier 1: Avnet; RoHS: Yes; Category: Chip SMD Resistors; Stock 1: 18060000; Pricing 1: 5000=0.00142, 10000=0.00140, 20000=0.00136, 30000=0.00133, 40000=0.00128, 50000=0.00125, 500000=0.00122 (USD); Mount: Surface Mount; Case/Package: 0603; Case Code (Metric): 1608; Case Code (Imperial): 0603; Contact Plating: Tin,Matte; Min Operating Temperature: -55°C; Max Operating Temperature: 155°C; Resistance: 0R; Packaging: Tape and Reel; Resistor Type: Thick Film; Number of Terminations: 2; Max Power Dissipation: 100mW; Features: Automotive AEC-Q200; Series: RMCF; Construction: Rectangular; Length: 1.55mm; Width: 0.031inch; Height: 0.022inch; Depth: 0.8mm; Radiation Hardening: No; Lead Free: Lead Free; Military Standard: Not; RoHS Compliant: Yes; ComponentLink1URL: https://www.seielect.com/catalog/SEI-Packaging.pdf?src-supplier=Avnet; ComponentLink1Description: https://www.seielect.com/catalog/SEI-Packaging.pdf?src-supplier=Avnet; ComponentLink2URL: https://www.seielect.com/catalog/SEI-Packaging.pdf?src-supplier=Arrow+Electronics; ComponentLink2Description: https://www.seielect.com/catalog/SEI-Packaging.pdf?src-supplier=Arrow+Electronics; ComponentLink3URL: https://www.seielect.com/catalog/SEI-Packaging.pdf?src-supplier=Verical; ComponentLink3Description: https://www.seielect.com/catalog/SEI-Packaging.pdf?src-supplier=Verical; ComponentLink4URL: https://www.seielect.com/Catalog/SEI-RMCF_RMCP.pdf?src-supplier=Digi-Key; ComponentLink4Description: https://www.seielect.com/Catalog/SEI-RMCF_RMCP.pdf?src-supplier=Digi-Key; ComponentLink5URL: https://www.seielect.com/catalog/SEI-Packaging.pdf?src-supplier=Digi-Key; ComponentLink5Description: https://www.seielect.com/catalog/SEI-Packaging.pdf?src-supplier=Digi-Key; Supplier Part Number 1: RMCF0603ZT0R00
footprint R0603
pins: 1, 2

## RES 1k00 63mW 0402
designator R?, comment 1k00  Tolerance: 1%
1 kOhms ¡À1% 0.063W, 1/16W Chip Resistor 0402 (1005 Metric) Moisture Resistant Thick Film; Manufacturer: Yageo; Manufacturer Part Number: RC0402FR-071KL; Resistance: 1kR; Temperature Coefficient: 100ppm/°C; Power Rating: 62.5mW; Voltage Rating: 50V; Max Power Dissipation: 63mW; Supplier 1: Newark; RoHS: Yes; Category: Chip SMD Resistors; Stock 1: 3520000; Pricing 1: 1=0.00100, 10000=0.00100 (USD); Case/Package: 0402; Number of Pins: 2; Case Code (Imperial): 0402; Case Code (Metric): 1005; Size Code: 0402; Min Operating Temperature: -55°C; Max Operating Temperature: 155°C; Resistor Type: Thick Film; Packaging: Tape and Reel; Voltage Rating (DC): 50V; Termination: SMD/SMT; Features: Moisture Resistant; Series: RC; Number of Terminations: 2; Resistance Tolerance: 1%; Construction: Rectangular; Technology: THICK FILM; Length: 1mm; Width: 0.5mm; Height: 0.32mm; Depth: 0.5mm; RoHS Compliant: Yes; Reach SVHC Compliant: Yes; Military Standard: Not; Lead Free: Lead Free; ComponentLink1URL: https://datasheet.ciiva.com/11819/0900766b80c66297-11819477.pdf?src-supplier=RSComponents; ComponentLink1Description: https://datasheet.ciiva.com/11819/0900766b80c66297-11819477.pdf?src-supplier=RSComponents; ComponentLink2URL: https://datasheet.ciiva.com/7983/1018594-7983502.pdf?src-supplier=Element14; ComponentLink2Description: https://datasheet.ciiva.com/7983/1018594-7983502.pdf?src-supplier=Element14; ComponentLink3URL: https://datasheet.ciiva.com/22747/1018594-22747513.pdf?src-supplier=Element14; ComponentLink3Description: https://datasheet.ciiva.com/22747/1018594-22747513.pdf?src-supplier=Element14; ComponentLink4URL: https://datasheet.ciiva.com/12666/pyu-rc0402-51-rohs-l-6-r-12666741.pdf?src-supplier=Mouser; ComponentLink4Description: https://datasheet.ciiva.com/12666/pyu-rc0402-51-rohs-l-6-r-12666741.pdf?src-supplier=Mouser; ComponentLink5URL: https://datasheet.ciiva.com/7849/1018594-7849869.pdf?src-supplier=Element14; ComponentLink5Description: https://datasheet.ciiva.com/7849/1018594-7849869.pdf?src-supplier=Element14; ComponentLink6URL: https://datasheet.ciiva.com/7849/1018594-7849871.pdf?src-supplier=Element14; ComponentLink6Description: https://datasheet.ciiva.com/7849/1018594-7849871.pdf?src-supplier=Element14; ComponentLink7URL: https://datasheet.ciiva.com/17063/pyu-rc0402-51-rohs-l-6-r-17063193.pdf?src-supplier=Future+Electronics; ComponentLink7Description: https://datasheet.ciiva.com/17063/pyu-rc0402-51-rohs-l-6-r-17063193.pdf?src-supplier=Future+Electronics; Supplier Part Number 1: 48Y4534
footprint R0402
pins: 1, 2

## RES 1M00 1% 63mW 0402
designator R?, comment 1M00  Tolerance: 1%
贴片电阻 1000000Ω ± 1.00% 0.0625W ± 100ppm/℃ 0402; Manufacturer: Yageo; Manufacturer Part Number: RC0402FR-071ML; Resistance: 1MR; Power Rating: 63mW; Voltage Rating: 50V; Temperature Coefficient: 100ppm/°C; Supplier 1: RSComponents; RoHS: Yes; Category: Chip SMD Resistors; Stock 1: 110000; Pricing 1: 10000=0.00100 (USD); Case/Package: 0402; Case Code (Imperial): 0402; Case Code (Metric): 1005; Size Code: 0402; Min Operating Temperature: -55°C; Max Operating Temperature: 155°C; Resistor Type: Thick Film; Packaging: Tape and Reel; Termination: SMD/SMT; Features: Moisture Resistant; Series: RC; Max Power Dissipation: 63mW; Number of Terminations: 2; Resistance Tolerance: 1%; Construction: Rectangular; Technology: THICK FILM; Length: 1mm; Height: 0.32mm; Depth: 0.5mm; RoHS Compliant: Yes; REACH SVHC: Unknown; Military Standard: Not; Lead Free: Lead Free; ComponentLink1URL: https://datasheet.ciiva.com/11808/0900766b80c66297-11808125.pdf?src-supplier=RSComponents; ComponentLink1Description: https://datasheet.ciiva.com/11808/0900766b80c66297-11808125.pdf?src-supplier=RSComponents; ComponentLink2URL: https://datasheet.ciiva.com/46394/1018594-46394951.pdf?src-supplier=Element14; ComponentLink2Description: https://datasheet.ciiva.com/46394/1018594-46394951.pdf?src-supplier=Element14; ComponentLink3URL: https://datasheet.ciiva.com/7849/1018594-7849883.pdf?src-supplier=Element14; ComponentLink3Description: https://datasheet.ciiva.com/7849/1018594-7849883.pdf?src-supplier=Element14; ComponentLink4URL: https://datasheet.ciiva.com/7849/1018594-7849882.pdf?src-supplier=Element14; ComponentLink4Description: https://datasheet.ciiva.com/7849/1018594-7849882.pdf?src-supplier=Element14; ComponentLink5URL: https://datasheet.ciiva.com/16741/pyu-rc0402-51-rohs-l-6-r-16741081.pdf?src-supplier=Future+Electronics; ComponentLink5Description: https://datasheet.ciiva.com/16741/pyu-rc0402-51-rohs-l-6-r-16741081.pdf?src-supplier=Future+Electronics; Supplier Part Number 1: 6186194
footprint r0402
pins: 1, 2

## RES 2k20 1% 63mW 0402
designator R?, comment 2k20
贴片电阻 2200Ω ± 1.00% 0.0625W ± 100ppm/℃ 0402; Manufacturer: Yageo; Manufacturer Part Number: RC0402FR-072K2L; Resistance: 2.2kR; Tolerance: 1%; Power Rating: 63mW; Voltage Rating: 50V; Temperature Coefficient: 100ppm/°C; Supplier 1: RSComponents; RoHS: Yes; Category: Chip SMD Resistors; Stock 1: 10500; Pricing 1: 10000=0.00300 (GBP); Case/Package: 0402; Case Code (Imperial): 0402; Case Code (Metric): 1005; Weight: 2.3E-05oz; Size Code: 0402; Min Operating Temperature: -55°C; Max Operating Temperature: 155°C; Resistor Type: Thick Film; Packaging: Tape and Reel; Termination: SMD/SMT; Features: Moisture Resistant; Series: RC; Max Power Dissipation: 63mW; Number of Terminations: 2; Resistance Tolerance: 1%; Construction: Rectangular; Technology: THICK FILM; Length: 1mm; Width: 0.5mm; Height: 0.35mm; Depth: 0.5mm; RoHS Compliant: Yes; REACH SVHC: Unknown; Military Standard: Not; Lead Free: Lead Free; ComponentLink1URL: https://datasheet.ciiva.com/11808/0900766b80c66297-11808786.pdf?src-supplier=RSComponents; ComponentLink1Description: https://datasheet.ciiva.com/11808/0900766b80c66297-11808786.pdf?src-supplier=RSComponents; ComponentLink2URL: https://datasheet.ciiva.com/7983/1018594-7983515.pdf?src-supplier=Element14; ComponentLink2Description: https://datasheet.ciiva.com/7983/1018594-7983515.pdf?src-supplier=Element14; ComponentLink3URL: https://datasheet.ciiva.com/46383/1018594-46383563.pdf?src-supplier=Element14; ComponentLink3Description: https://datasheet.ciiva.com/46383/1018594-46383563.pdf?src-supplier=Element14; ComponentLink4URL: https://datasheet.ciiva.com/12577/pyu-rc0402-51-rohs-l-6-r-12577429.pdf?src-supplier=Mouser; ComponentLink4Description: https://datasheet.ciiva.com/12577/pyu-rc0402-51-rohs-l-6-r-12577429.pdf?src-supplier=Mouser; ComponentLink5URL: https://datasheet.ciiva.com/7849/1018594-7849929.pdf?src-supplier=Element14; ComponentLink5Description: https://datasheet.ciiva.com/7849/1018594-7849929.pdf?src-supplier=Element14; ComponentLink6URL: https://datasheet.ciiva.com/7849/1018594-7849928.pdf?src-supplier=Element14; ComponentLink6Description: https://datasheet.ciiva.com/7849/1018594-7849928.pdf?src-supplier=Element14; ComponentLink7URL: https://datasheet.ciiva.com/16741/pyu-rc0402-51-rohs-l-6-r-16741015.pdf?src-supplier=Future+Electronics; ComponentLink7Description: https://datasheet.ciiva.com/16741/pyu-rc0402-51-rohs-l-6-r-16741015.pdf?src-supplier=Future+Electronics; Supplier Part Number 1: 1987730
footprint R0402
pins: 1, 2

## RES 5k10
designator R?, comment 5k10  Tolerance: 1%
贴片电阻 5100Ω ± 1.00% 0.0625W ± 100ppm/℃ 0402; Manufacturer: Yageo; Manufacturer Part Number: RC0402FR-075K1L; Power Rating: 63mW; Resistance: 5.1kR; Temperature Coefficient: 100ppm/°C; Voltage Rating: 50V; Supplier 1: RSComponents; RoHS: Yes; Category: Chip SMD Resistors; Stock 1: 27100; Pricing 1: 10000=0.00100 (GBP); Case/Package: 0402; Case Code (Metric): 1005; Case Code (Imperial): 0402; Min Operating Temperature: -55°C; Max Operating Temperature: 155°C; Technology: THICK FILM; Packaging: Tape and Reel; Package Quantity: 1; Resistor Type: Thick Film; Number of Terminations: 2; Termination: SMD/SMT; Max Power Dissipation: 63mW; Voltage Rating (DC): 50V; Working Voltage: 50V; Features: Moisture Resistant; Series: RC; Resistance Tolerance: 1%; Construction: Rectangular; Length: 1mm; Width: 0.02inch; Height: 0.016inch; Depth: 0.5mm; RoHS Compliant: Yes; REACH SVHC: Unknown; Military Standard: Not; Lead Free: Lead Free; ComponentLink1URL: https://datasheet.ciiva.com/7983/1018594-7983519.pdf?src-supplier=Element14; ComponentLink1Description: https://datasheet.ciiva.com/7983/1018594-7983519.pdf?src-supplier=Element14; ComponentLink2URL: https://datasheet.ciiva.com/46394/1018594-46394936.pdf?src-supplier=Element14; ComponentLink2Description: https://datasheet.ciiva.com/46394/1018594-46394936.pdf?src-supplier=Element14; ComponentLink3URL: https://datasheet.ciiva.com/2453/pyu-r-int-thick-7-2453401.pdf?src-supplier=Digi-Key; ComponentLink3Description: https://datasheet.ciiva.com/2453/pyu-r-int-thick-7-2453401.pdf?src-supplier=Digi-Key; ComponentLink4URL: https://datasheet.ciiva.com/2453/pyu-r-int-thick-7-2453402.pdf?src-supplier=Digi-Key; ComponentLink4Description: https://datasheet.ciiva.com/2453/pyu-r-int-thick-7-2453402.pdf?src-supplier=Digi-Key; ComponentLink5URL: https://datasheet.ciiva.com/2453/pyu-r-int-thick-7-2453400.pdf?src-supplier=Digi-Key; ComponentLink5Description: https://datasheet.ciiva.com/2453/pyu-r-int-thick-7-2453400.pdf?src-supplier=Digi-Key; ComponentLink6URL: https://datasheet.ciiva.com/12558/pyu-rc0402-51-rohs-l-6-r-8721-12558460.pdf?src-supplier=Mouser; ComponentLink6Description: https://datasheet.ciiva.com/12558/pyu-rc0402-51-rohs-l-6-r-8721-12558460.pdf?src-supplier=Mouser; ComponentLink7URL: https://datasheet.ciiva.com/16744/pyu-rc0402-51-rohs-l-6-r-16744283.pdf?src-supplier=Future+Electronics; ComponentLink7Description: https://datasheet.ciiva.com/16744/pyu-rc0402-51-rohs-l-6-r-16744283.pdf?src-supplier=Future+Electronics; ComponentLink8URL: https://datasheet.ciiva.com/15189/getdatasheetpartid-323636-15189493.pdf?src-supplier=Verical; ComponentLink8Description: https://datasheet.ciiva.com/15189/getdatasheetpartid-323636-15189493.pdf?src-supplier=Verical; Supplier Part Number 1: 1987834
footprint R0402
pins: 1, 2

## RES 5k60 1% 63mW 0402
designator R?, comment 5k60  Tolerance: 1%
Res Thick Film 0402 5.6K Ohm 1% 0.063W(1/16W) ±100ppm/C Epoxy SMD T/R; Manufacturer: Yageo; Manufacturer Part Number: RC0402FR-075K6L; Resistance: 5.6kR; Power Rating: 62.5mW; Voltage Rating: 50V; Temperature Coefficient: 100ppm/°C; Supplier 1: Newark; RoHS: Yes; Category: Chip SMD Resistors; Stock 1: 100000; Pricing 1: 1=0.00100, 10000=0.00100 (USD); Case/Package: Molded; Case Code (Imperial): 0402; Case Code (Metric): 1005; Size Code: 0402; Min Operating Temperature: -55°C; Max Operating Temperature: 155°C; Packaging: Tape and Reel; Termination: SMD/SMT; Resistor Type: Thick Film; Series: RC; Construction: Rectangular; Resistance Tolerance: 1%; Length: 1mm; Depth: 0.5mm; Military Standard: Not; Lead Free: Lead Free; RoHS Compliant: Yes; ComponentLink1URL: https://datasheet.ciiva.com/12667/pyu-rc0402-51-rohs-l-6-r-12667035.pdf?src-supplier=Mouser; ComponentLink1Description: https://datasheet.ciiva.com/12667/pyu-rc0402-51-rohs-l-6-r-12667035.pdf?src-supplier=Mouser; Supplier Part Number 1: 12AC2081
footprint R0402
pins: 1, 2

## RES 10k00 0.1% 63mW 0402
designator R?, comment 10k00  Tolerance: 0.1%
Res Thin Film 0402 10K Ohm 0.1% 0.063W ±25ppm/°C Molded SMD Punched Carrier T/R; Manufacturer: Panasonic; Manufacturer Part Number: ERA-2AEB103X; Resistance: 10kR; Power Rating: 63mW; Voltage Rating: 25V; Supplier 1: Digi-Key; RoHS: Yes; Category: Chip SMD Resistors; Stock 1: 522097; Pricing 1: 1=0.44000, 10=0.31900, 100=0.12780, 1000=0.06295, 2500=0.05832, 5000=0.05277 (USD); Mount: Surface Mount; Case/Package: 0402; Number of Pins: 2; Contact Plating: Tin; Case Code (Imperial): 0402; Case Code (Metric): 1005; Size Code: 0402; Min Operating Temperature: -55°C; Max Operating Temperature: 155°C; Resistor Type: Thin Film; Temperature Coefficient: 25ppm/°C; Packaging: Tape and Reel; Package Quantity: 1; Number of Terminations: 2; Termination: SMD/SMT; Max Power Dissipation: 63mW; Voltage Rating (DC): 25V; Features: Automotive AEC-Q200; Series: ERA-2A; Resistance Tolerance: 0.1%; Technology: METAL FILM; Construction: Rectangular; Length: 1mm; Width: 0.5mm; Height: 0.35mm; Depth: 0.5mm; Radiation Hardening: No; REACH SVHC: Unknown; Military Standard: Not; Lead Free: Lead Free; RoHS Compliant: Yes; ComponentLink1URL: https://datasheet.ciiva.com/11812/0900766b80beefcc-11812131.pdf?src-supplier=RSComponents; ComponentLink1Description: https://datasheet.ciiva.com/11812/0900766b80beefcc-11812131.pdf?src-supplier=RSComponents; ComponentLink2URL: https://datasheet.ciiva.com/7001/39845-7001394.pdf?src-supplier=Newark; ComponentLink2Description: https://datasheet.ciiva.com/7001/39845-7001394.pdf?src-supplier=Newark; ComponentLink3URL: https://datasheet.ciiva.com/5838/328837-5838011.pdf?src-supplier=Farnell; ComponentLink3Description: https://datasheet.ciiva.com/5838/328837-5838011.pdf?src-supplier=Farnell; ComponentLink4URL: https://datasheet.ciiva.com/9116/aoa0000ce26-9116649.pdf?src-supplier=Avnet; ComponentLink4Description: https://datasheet.ciiva.com/9116/aoa0000ce26-9116649.pdf?src-supplier=Avnet; ComponentLink5URL: https://datasheet.ciiva.com/9117/aoa0000ce26-9117366.pdf?src-supplier=Avnet; ComponentLink5Description: https://datasheet.ciiva.com/9117/aoa0000ce26-9117366.pdf?src-supplier=Avnet; ComponentLink6URL: https://datasheet.ciiva.com/30213/54aoa0000ce26-30213096.pdf?src-supplier=Onlinecomponents.com; ComponentLink6Description: https://datasheet.ciiva.com/30213/54aoa0000ce26-30213096.pdf?src-supplier=Onlinecomponents.com; ComponentLink7URL: https://datasheet.ciiva.com/16426/aoa0000ce26-16426203.pdf?src-supplier=Future+Electronics; ComponentLink7Description: https://datasheet.ciiva.com/16426/aoa0000ce26-16426203.pdf?src-supplier=Future+Electronics; ComponentLink8URL: https://datasheet.ciiva.com/46398/328837-46398998.pdf?src-supplier=Element14; ComponentLink8Description: https://datasheet.ciiva.com/46398/328837-46398998.pdf?src-supplier=Element14; ComponentLink9URL: https://datasheet.ciiva.com/46398/328837-46398999.pdf?src-supplier=Element14; ComponentLink9Description: https://datasheet.ciiva.com/46398/328837-46398999.pdf?src-supplier=Element14; ComponentLink10URL: https://datasheet.ciiva.com/16768/70068849-16768699.pdf?src-supplier=Allied+Electronics; ComponentLink10Description: https://datasheet.ciiva.com/16768/70068849-16768699.pdf?src-supplier=Allied+Electronics; Supplier Part Number 1: P10KDCCT-ND
footprint r0402
pins: 1, 2